# Altium footprint library supercap.PCBLIB: 487 footprints (part 9 of 31)
Each footprint in its own frame and in the unit in brackets; x right, y up, seen from the top. Pads: shape width x height; smd on the part's side, far side on the other; paste and mask are expansions set on the pad; w line width, h text height; cw(c..) or ccw(c..) is an arc to the next point about the centre after c.
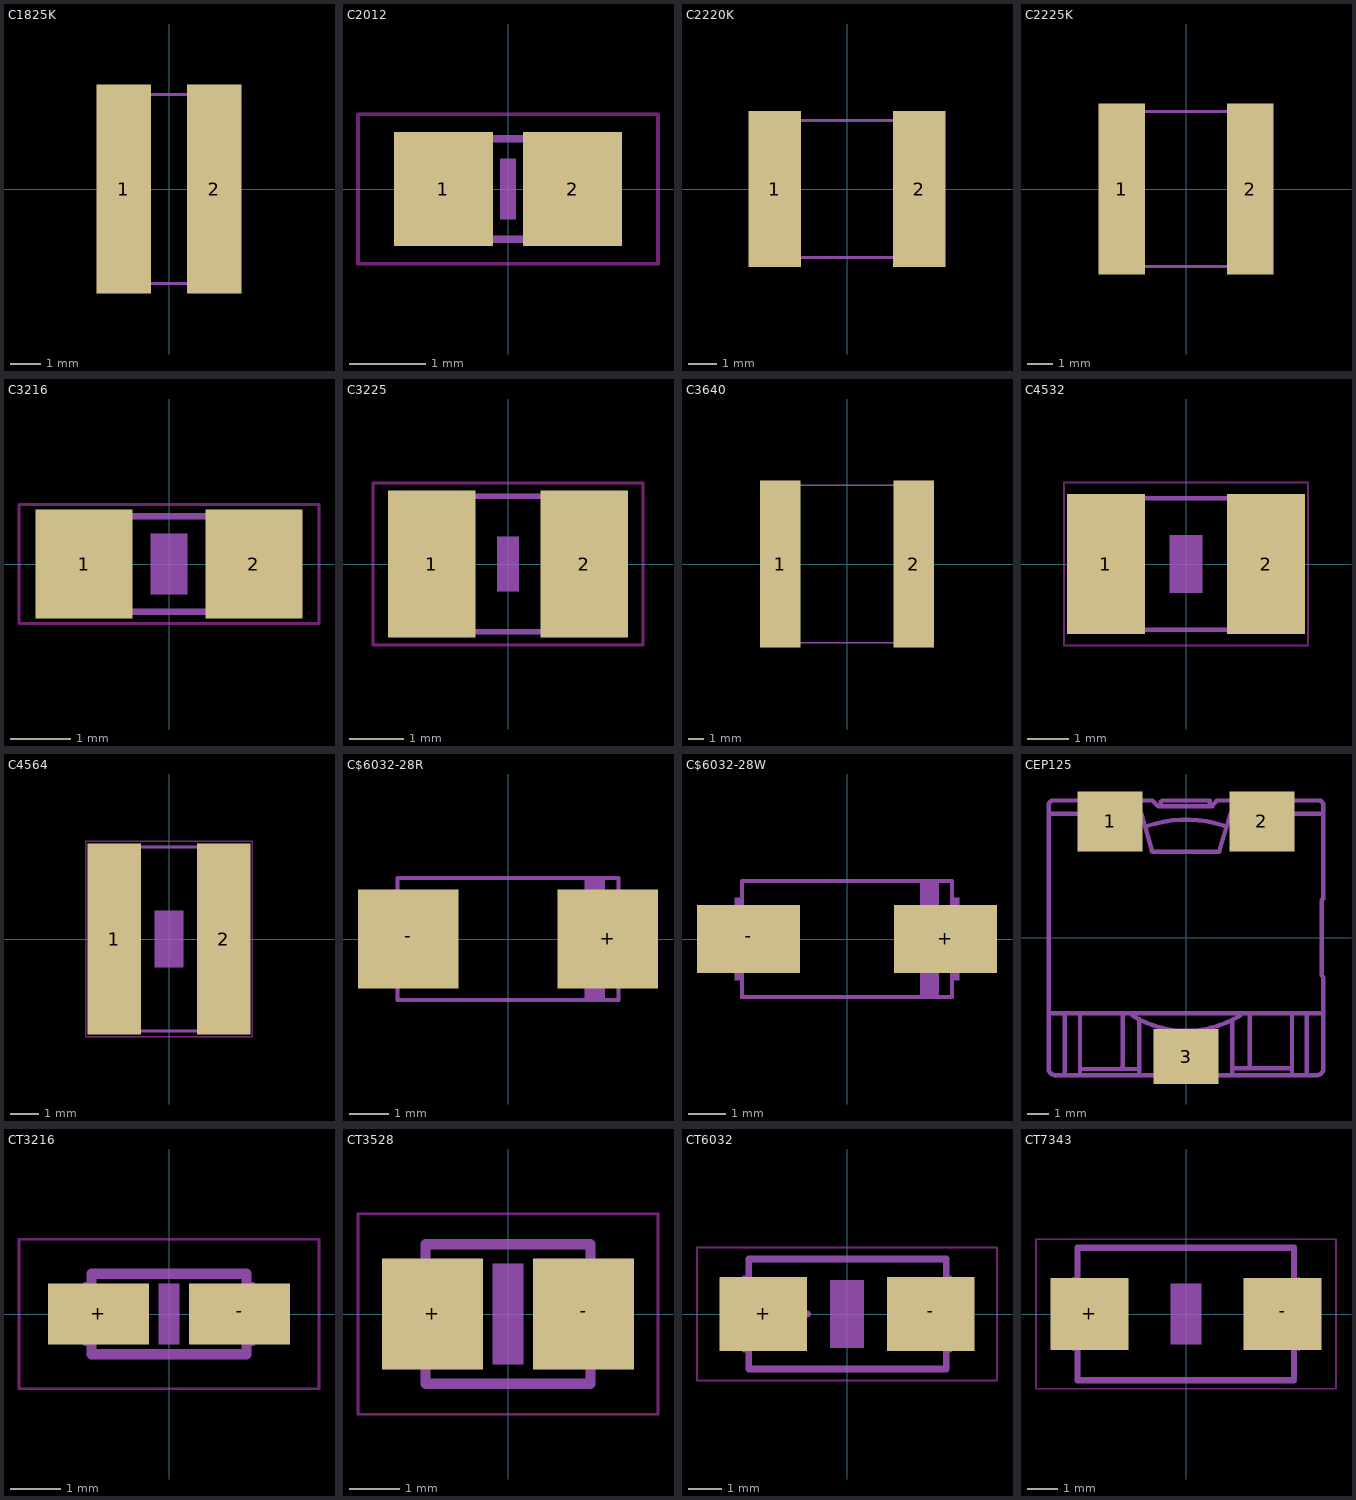
[diagram p8: the footprints below, top view; thin cyan lines are the x and y axes]

## C1825K [mil]
pads (2):
  rect 70.87x271.65 smd: 1(-59.06,0) 2(59.06,0)
tDocu:
  region: -62.99,-125.98 -62.99,125.98 -43.31,125.98 -43.31,-125.98
  region: 43.31,-125.98 43.31,125.98 62.99,125.98 62.99,-125.98
  lines w4: -60.04,-123.03 60.04,-123.03 ; -60.04,123.03 60.04,123.03

## C2012 [mil]
pads (2):
  rect 51.18x59.06 smd: 1(-33.46,0) 2(33.46,0)
Top keep-out:
  lines w2: -77.68,-38.7 77.68,-38.7 77.68,38.7 -77.68,38.7 -77.68,-38.7
tDocu:
  region: -43,-28.5 -43,28.59 -13.47,28.59 -13.47,-28.5
  region: 14,-28.5 14,28.59 43.53,28.59 43.53,-28.5
  lines w4: -15,25.98 15,25.98 ; -14.02,-25.98 15,-25.98
tGlue:
  region: -3.94,-15.75 -3.94,15.75 3.94,15.75 3.94,-15.75

## C2220K [mil]
pads (2):
  rect 72.83x216.54 smd: 1(-100.39,0) 2(100.39,0)
tDocu:
  region: -110.24,-98.43 -110.24,98.43 -86.61,98.43 -86.61,-98.43
  region: 86.61,-98.43 86.61,98.43 110.24,98.43 110.24,-98.43
  lines w4: -107.28,-95.47 107.28,-95.47 ; -107.28,95.47 107.28,95.47

## C2225K [mil]
pads (2):
  rect 72.83x267.72 smd: 1(-100.39,0) 2(100.39,0)
tDocu:
  region: -110.24,-124.02 -110.24,124.02 -86.61,124.02 -86.61,-124.02
  region: 86.61,-124.02 86.61,124.02 110.24,124.02 110.24,-124.02
  lines w4: -107.28,-121.06 107.28,-121.06 ; -107.28,121.06 107.28,121.06

## C3216 [mil]
pads (2):
  rect 62.99x70.87 smd: 1(-55.12,0) 2(55.12,0)
Top keep-out:
  lines w2: -97.36,-38.7 97.36,-38.7 97.36,38.7 -97.36,38.7 -97.36,-38.7
tDocu:
  region: -67,-33.5 -67,33.43 -37.47,33.43 -37.47,-33.5
  region: 37.47,-33.43 37.47,33.5 67,33.5 67,-33.43
  lines w4: -37.99,-30.98 37.99,-30.98 ; -37.99,30.98 37.99,30.98
tGlue:
  region: -11.81,-19.69 -11.81,19.69 11.81,19.69 11.81,-19.69

## C3225 [mil]
pads (2):
  rect 62.99x106.3 smd: 1(-55.12,0) 2(55.12,0)
Top keep-out:
  lines w2: -97.36,-58.39 97.36,-58.39 97.36,58.39 -97.36,58.39 -97.36,-58.39
tDocu:
  region: -67,-51 -67,51.36 -37.47,51.36 -37.47,-51
  region: 37.47,-51.36 37.47,51 67,51 67,-51.36
  lines w4: -38,-49 38,-49 ; -38,49 38,49
tGlue:
  region: -7.87,-19.69 -7.87,19.69 7.87,19.69 7.87,-19.69

## C3640 [mm]
pads (2):
  rect 2.6x10.7 smd: 1(-4.267,0) 2(4.267,0)
tDocu:
  region: -4.57,-5.1 -4.57,5.1 -3.05,5.1 -3.05,-5.1
  region: 3.05,-5.1 3.05,5.1 4.569,5.1 4.569,-5.1
  lines w0.102: -3.832,-5.05 3.832,-5.05 ; -3.832,5.05 3.832,5.05

## C4532 [mil]
pads (2):
  rect 74.8x133.86 smd: 1(-76.77,0) 2(76.77,0)
Top keep-out:
  lines w2: -117.05,-78.07 117.05,-78.07 117.05,78.07 -117.05,78.07 -117.05,-78.07
tDocu:
  region: -94,-65 -94,64.92 -56.6,64.92 -56.6,-65
  region: 57,-65 57,64.92 94.4,64.92 94.4,-65
  lines w4: -58,63 58,63 ; -57,-63 58,-63
tGlue:
  region: -15.75,-27.56 -15.75,27.56 15.75,27.56 15.75,-27.56

## C4564 [mil]
pads (2):
  rect 74.8x267.72 smd: 1(-76.77,0) 2(76.77,0)
Top keep-out:
  lines w2: -117.05,-137.13 117.05,-137.13 117.05,137.13 -117.05,137.13 -117.05,-137.13
tDocu:
  region: -95,-132 -95,131.78 -57.6,131.78 -57.6,-132
  region: 57,-132 57,131.78 94.4,131.78 94.4,-132
  lines w4: -59,129 58,129 ; -58,-129 59,-129
tGlue:
  region: -19.69,-39.37 -19.69,39.37 19.69,39.37 19.69,-39.37

## C$6032-28R [mm]
pads (2):
  rect 2.55x2.5 smd: +(2.525,0) -(-2.525,0)
tDocu:
  region: -3,-1.1 -3,1.1 -2.85,1.1 -2.85,-1.1
  region: 2.85,-1.1 2.85,1.1 3,1.1 3,-1.1
  region: 1.95,-1.575 1.95,1.575 2.45,1.575 2.45,-1.575
  lines w0.102: -2.8,-1.55 2.8,-1.55 2.8,1.55 -2.8,1.55 -2.8,-1.55

## C$6032-28W [mil]
pads (2):
  rect 108.27x70.87 smd: +(103.35,0) -(-103.35,0)
tDocu:
  region: -118.11,-43.31 -118.11,43.31 -112.2,43.31 -112.2,-43.31
  region: 112.2,-43.31 112.2,43.31 118.11,43.31 118.11,-43.31
  region: 76.77,-62.01 76.77,62.01 96.46,62.01 96.46,-62.01
  lines w4: -110.24,-61.02 110.24,-61.02 110.24,61.02 -110.24,61.02 -110.24,-61.02

## CEP125 [mm]
pads (3):
  rect 3x2.75 smd: 1(-3.5,5.375) 2(3.5,5.375)
  rect 3x2.55 smd: 3(0,-5.48)
tDocu:
  lines w0.203: -6.24,5.739 -2.054,5.739 -1.553,3.975 ; -6.134,6.345 -1.553,6.345 ; -6.029,-6.345 6.029,-6.345 ; -2.475,-3.58 ccw(c0.013,0.408) 2.501,-3.58 ; 1.422,6.345 6.108,6.345 ; 1.527,3.975 2.054,5.739 6.24,5.739
tPlace:
  lines w0.203: -6.266,-3.475 6.24,-3.475 ; -6.134,6.345 ccw(c-6.121,6.121) -6.345,6.134 -6.345,-6.029 ccw(c-6.031,-6.031) -6.029,-6.345 ; -5.608,-6.24 -5.608,-3.58 ; -4.897,-6.24 -4.897,-3.58 ; -4.791,-6.055 -2.212,-6.055 ; -2.949,-5.95 -2.922,-5.95 -2.922,-3.58 ; -2.159,-6.24 -2.159,-3.87 ; -1.79,5.16 cw(c0.013,-0.078) 1.738,5.186 ; -1.58,6.345 -1.553,6.345 -1.29,6.082 -1.158,6.082 ; -1.553,3.975 1.527,3.975 ; 1.422,6.345 1.211,6.082 1.106,6.082 ; 2.133,-6.24 2.133,-3.87 ; 2.238,-6.029 4.897,-6.029 ; 2.949,-5.924 2.949,-3.58 ; 4.897,-6.24 4.897,-3.58 ; 5.581,-6.24 5.581,-3.58 ; 6.029,-6.345 ccw(c6.032,-6.032) 6.345,-6.029 6.345,-1.817 6.266,-1.738 6.266,1.738 6.345,1.817 6.345,6.108 ccw(c6.121,6.121) 6.108,6.345 ; -1.158,6.082 -1.158,6.292 ; -1.158,6.082 1.106,6.082 ; -1.158,6.292 -1.158,6.292 ; -1.158,6.292 -1.106,6.345 1.106,6.345 1.106,6.082

## CT3216 [mm]
pads (2):
  rect 2x1.2 smd: +(-1.4,0) -(1.4,0)
Top keep-out:
  lines w0.051: -2.973,-1.483 2.973,-1.483 2.973,1.483 -2.973,1.483 -2.973,-1.483
tDocu:
  lines w0.152: -1.651,-0.559 -1.651,0.559 ; 1.651,-0.559 1.651,0.559
  lines w0.203: -1.26,0 -0.7,0 ; -0.97,-0.3 -0.97,0.26 ; -1.535,-0.798 -1.535,0.798 1.535,0.798 1.535,-0.798 -1.535,-0.798
tGlue:
  region: -0.2,-0.6 -0.2,0.6 0.2,0.6 0.2,-0.6

## CT3528 [mm]
pads (2):
  rect 2x2.2 smd: +(-1.5,0) -(1.5,0)
Top keep-out:
  lines w0.051: -2.973,-1.983 2.973,-1.983 2.973,1.983 -2.973,1.983 -2.973,-1.983
tDocu:
  lines w0.152: -1.778,-1.016 -1.778,1.016 ; 1.778,-1.016 1.778,1.016
  lines w0.203: -1.31,0 -0.68,0 ; -1,-0.33 -1,0.3 ; -1.637,-1.383 -1.637,1.383 1.637,1.383 1.637,-1.383 -1.637,-1.383
tGlue:
  region: -0.3,-1 -0.3,1 0.3,1 0.3,-1

## CT6032 [mil]
pads (2):
  rect 102.36x86.61 smd: +(-98.43,0) -(98.43,0)
Top keep-out:
  lines w2: -176.1,-78.07 176.1,-78.07 176.1,78.07 -176.1,78.07 -176.1,-78.07
tDocu:
  lines w6: -120.98,-42.01 -120.98,42.01 ; 120.98,-42.01 120.98,42.01
  lines w8: -96.46,0 -46.46,0 ; -70.87,-25.2 -70.87,24.8 ; -115.43,-64.45 -115.43,64.45 116.42,64.45 116.42,-64.45 -115.43,-64.45
tGlue:
  region: -19.69,-39.37 -19.69,39.37 19.69,39.37 19.69,-39.37

## CT7343 [mil]
pads (2):
  rect 102.36x94.49 smd: +(-125.98,0) -(125.98,0)
Top keep-out:
  lines w2: -195.79,-97.76 195.79,-97.76 195.79,97.76 -195.79,97.76 -195.79,-97.76
tDocu:
  lines w6: -147.01,-45 -147.01,45 ; 147.01,-45 147.01,45
  lines w8: -121.65,0 -80.32,0 ; -100.39,-20.47 -100.39,20.47 ; -141.42,-86.42 -141.42,86.42 141.02,86.42 141.02,-86.42 -141.42,-86.42
tGlue:
  region: -19.69,-39.37 -19.69,39.37 19.69,39.37 19.69,-39.37